# Altium footprint library SL-DPT100.PcbLib: 41 footprints (part 2 of 3)
Each footprint in its own frame and in the unit in brackets; x right, y up, seen from the top. Pads: shape width x height; smd on the part's side, far side on the other; paste and mask are expansions set on the pad; w line width, h text height; cw(c..) or ccw(c..) is an arc to the next point about the centre after c.
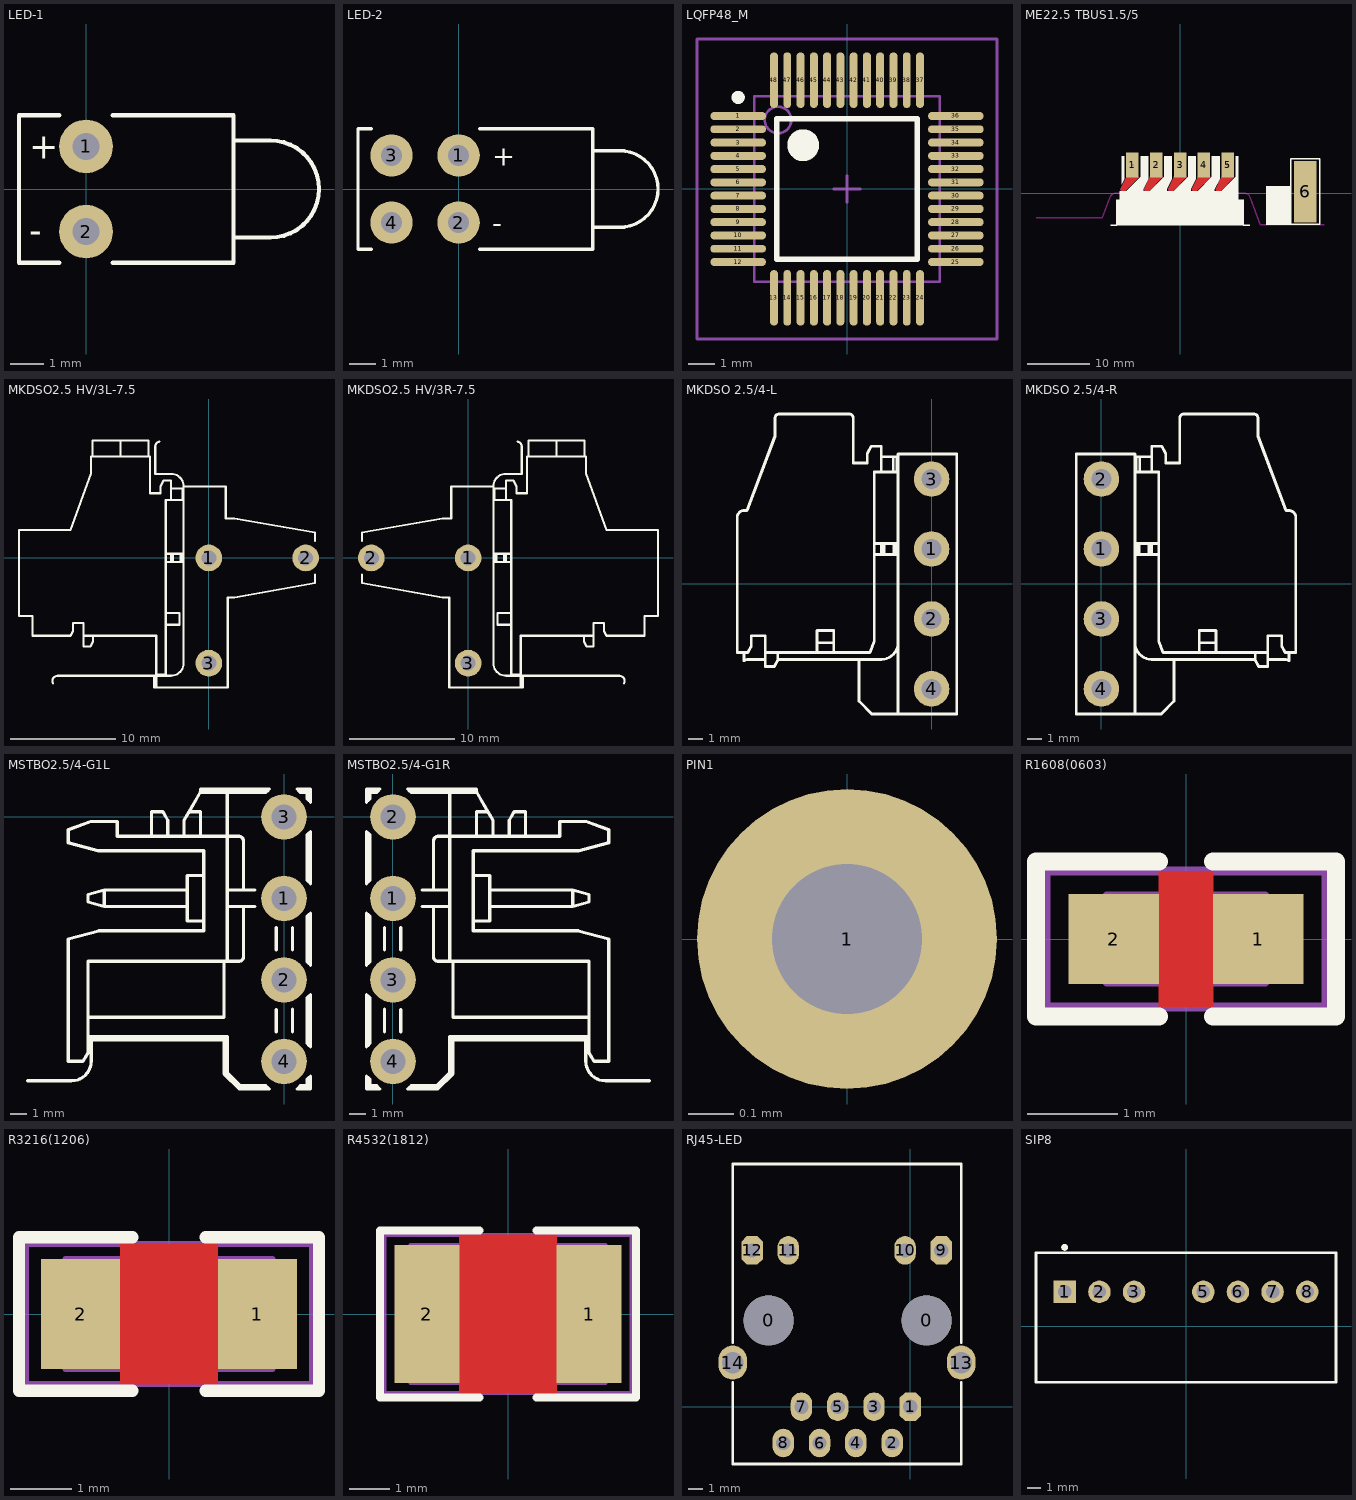
[diagram p1: the footprints below, top view; thin cyan lines are the x and y axes]

## LED-1 [mm] "Typical RED GaAs LED; 2 Leads"
height 1.75
pads (2):
  round 1.6 hole 0.8: 1(0,1.27) 2(0,-1.27)
Top Overlay:
  lines w0.127: -0.8,-2.2 -2,-2.2 -2,2.2 -0.8,2.2 ; 0.8,-2.2 4.4,-2.2 4.4,2.2 0.8,2.2 ; 4.4,-1.45 5.5,-1.45 ccw(c5.5,0) 5.5,1.45 4.4,1.45
  text "+" at -1.7,0.9 h0.76
  text "-" at -1.7,-1.6 h0.76

## LED-2 [mm]
pads (4):
  round 1.6 hole 0.8: 1(0,1.27) 2(0,-1.27) 3(-2.54,1.27) 4(-2.54,-1.27)
Top Overlay:
  lines w0.127: -3.302,-2.286 -3.81,-2.286 -3.81,2.286 -3.302,2.286 ; 0.8,-2.286 5.08,-2.286 5.08,2.286 0.8,2.286 ; 5.08,-1.45 6.262,-1.45 ; 5.08,1.45 6.262,1.45 ; 6.096,-1.45 ccw(c6.096,0) 6.096,1.45
  text "+" at 1.27,0.889 h0.76
  text "-" at 1.27,-1.651 h0.76

## LQFP48_M [mm] "48-Pin Thin Quad Flat Pack 0.5 mm Pitch, IPC Low Density"
height 1.6
pads (48):
  oval 2.1x0.3 smd: 1(-4.1,2.75) 2(-4.1,2.25) 3(-4.1,1.75) 4(-4.1,1.25) 5(-4.1,0.75) 6(-4.1,0.25) 7(-4.1,-0.25) 8(-4.1,-0.75) 9(-4.1,-1.25) 10(-4.1,-1.75) 11(-4.1,-2.25) 12(-4.1,-2.75) 25(4.1,-2.75) 26(4.1,-2.25) 27(4.1,-1.75) 28(4.1,-1.25) 29(4.1,-0.75) 30(4.1,-0.25) 31(4.1,0.25) 32(4.1,0.75) 33(4.1,1.25) 34(4.1,1.75) 35(4.1,2.25) 36(4.1,2.75)
  oval 0.3x2.1 smd: 13(-2.75,-4.1) 14(-2.25,-4.1) 15(-1.75,-4.1) 16(-1.25,-4.1) 17(-0.75,-4.1) 18(-0.25,-4.1) 19(0.25,-4.1) 20(0.75,-4.1) 21(1.25,-4.1) 22(1.75,-4.1) 23(2.25,-4.1) 24(2.75,-4.1) 37(2.75,4.1) 38(2.25,4.1) 39(1.75,4.1) 40(1.25,4.1) 41(0.75,4.1) 42(0.25,4.1) 43(-0.25,4.1) 44(-0.75,4.1) 45(-1.25,4.1) 46(-1.75,4.1) 47(-2.25,4.1) 48(-2.75,4.1)
Top Overlay:
  circle w0.25: c-4.1,3.45 r0.125
  circle w0.6: c-1.65,1.65 r0.3
  lines w0.2: -2.65,-2.65 -2.65,2.65 2.65,2.65 2.65,-2.65 -2.65,-2.65
Mechanical 13:
  circle w0.1: c-2.6,2.6 r0.5
  lines w0.1: -3.5,-3.5 -3.5,3.5 3.5,3.5 3.5,-3.5 -3.5,-3.5
Mechanical 15:
  lines w0.1: -0.5,0 0.5,0 ; 0,-0.5 0,0.5 ; -5.65,-5.65 -5.65,5.65 5.65,5.65 5.65,-5.65 -5.65,-5.65
3D body: height 1.6, standoff 0, extent -3.5,-3.5 3.5,3.5

## ME22.5 TBUS1.5/5 [mm]
pads (6):
  rect 2x4 hole 0.5: 1(-7.62,4.5) 2(-3.81,4.5) 3(0,4.5) 4(3.8,4.5) 5(7.6,4.5)
  rect 3.6x9.8 hole 0.5: 6(20,0.2)
Top Layer:
  region: 1,2.6 1,2.5 -1.1,0.4 -1.8,0.4 -1.9,0.6 -1,2.5 -1,2.6
  region: 4.8,2.6 4.8,2.5 2.7,0.4 2,0.4 1.9,0.6 2.8,2.5 2.8,2.6
  region: 8.6,2.6 8.6,2.5 6.5,0.4 5.8,0.4 5.7,0.6 6.6,2.5 6.6,2.6
  region: -2.81,2.6 -2.81,2.5 -4.91,0.4 -5.61,0.4 -5.71,0.6 -4.81,2.5 -4.81,2.6
  region: -6.62,2.6 -6.62,2.5 -8.72,0.4 -9.42,0.4 -9.52,0.6 -8.62,2.5 -8.62,2.6
Bottom Layer:
  region: 1,2.6 1,2.5 -1.1,0.4 -1.8,0.4 -1.9,0.6 -1,2.5 -1,2.6
  region: 4.8,2.6 4.8,2.5 2.7,0.4 2,0.4 1.9,0.6 2.8,2.5 2.8,2.6
  region: 8.6,2.6 8.6,2.5 6.5,0.4 5.8,0.4 5.7,0.6 6.6,2.5 6.6,2.6
  region: -2.81,2.6 -2.81,2.5 -4.91,0.4 -5.61,0.4 -5.71,0.6 -4.81,2.5 -4.81,2.6
  region: -6.62,2.6 -6.62,2.5 -8.72,0.4 -9.42,0.4 -9.52,0.6 -8.62,2.5 -8.62,2.6
Top Overlay:
  rectangle: -10.2,-5.2 10.2,-1
  rectangle: 13.7,-5.1 17.8,1.1
  region: -9.3,5.9 -9.3,1.4 -8.9,2.2 -8.9,5.9
  region: -6.3,5.9 -6.3,2.6 -8.6,0.3 -9.6,0.3 -9.6,-1 -5.9,-1 -5.9,0.6 -5.1,2.2 -5.1,5.9
  region: -2.5,5.9 -2.5,2.6 -4.8,0.3 -5.9,0.3 -5.9,-1 -2.1,-1 -2.1,0.6 -1.3,2.2 -1.3,5.9
  region: 8.9,5.9 8.9,2.6 6.6,0.3 5.5,0.3 5.5,-1 9.3,-1 9.3,5.9
  region: 1.3,5.9 1.3,2.6 -1,0.3 -2.1,0.3 -2.1,-1 1.7,-1 1.7,0.6 2.5,2.2 2.5,5.9
  region: 5.1,5.9 5.1,2.6 2.8,0.3 1.7,0.3 1.7,-1 5.5,-1 5.5,0.6 6.3,2.2 6.3,5.9
  lines w0.2: -11.1,-5.1 -10.1,-5.1 ; -9.2,4.075 -9.2,5.8 ; 10.1,-5.1 11.1,-5.1 ; 17.7,-5 22.3,-5 22.3,5.5 17.7,5.5 17.7,1
Bottom Overlay:
  rectangle: -10.2,-5.2 10.2,-1
  region: 5.1,5.9 5.1,2.6 2.8,0.3 1.7,0.3 1.7,-1 5.5,-1 5.5,0.6 6.3,2.2 6.3,5.9
  region: 1.3,5.9 1.3,2.6 -1,0.3 -2.1,0.3 -2.1,-1 1.7,-1 1.7,0.6 2.5,2.2 2.5,5.9
  region: 8.9,5.9 8.9,2.6 6.6,0.3 5.5,0.3 5.5,-1 9.3,-1 9.3,5.9
  region: -2.5,5.9 -2.5,2.6 -4.8,0.3 -5.9,0.3 -5.9,-1 -2.1,-1 -2.1,0.6 -1.3,2.2 -1.3,5.9
  region: -6.3,5.9 -6.3,2.6 -8.6,0.3 -9.6,0.3 -9.6,-1 -5.9,-1 -5.9,0.6 -5.1,2.2 -5.1,5.9
  region: -9.3,5.9 -9.3,1.4 -8.9,2.2 -8.9,5.9
  lines w0.2: -11.1,-5.1 -10.1,-5.1 ; -9.2,4.075 -9.2,5.8 ; 10.1,-5.1 11.1,-5.1 ; 17.7,-5 17.7,5.5 22.3,5.5 22.3,-5 17.7,-5
Top Solder:
  region: 1.1,2.6 1.1,2.4 -1,0.3 -1.9,0.3 -2,0.6 -1.1,2.6
  region: 4.9,2.6 4.9,2.4 2.8,0.3 1.9,0.3 1.8,0.6 2.7,2.6
  region: 8.7,2.6 8.7,2.4 6.6,0.3 5.7,0.3 5.6,0.6 6.5,2.6
  region: -2.71,2.6 -2.71,2.4 -4.81,0.3 -5.71,0.3 -5.81,0.6 -4.91,2.6
  region: -6.52,2.6 -6.52,2.4 -8.62,0.3 -9.52,0.3 -9.62,0.6 -8.72,2.6
Bottom Solder:
  region: 1.1,2.6 1.1,2.4 -1,0.3 -1.9,0.3 -2,0.6 -1.1,2.6
  region: 4.9,2.6 4.9,2.4 2.8,0.3 1.9,0.3 1.8,0.6 2.7,2.6
  region: 8.7,2.6 8.7,2.4 6.6,0.3 5.7,0.3 5.6,0.6 6.5,2.6
  region: -2.71,2.6 -2.71,2.4 -4.81,0.3 -5.71,0.3 -5.81,0.6 -4.91,2.6
  region: -6.52,2.6 -6.52,2.4 -8.62,0.3 -9.52,0.3 -9.62,0.6 -8.72,2.6
Keep-Out Layer:
  lines w0.2: -23,-3.95 -12.419,-3.95 -11.247,-0.729 ; -11.244,-0.73 cw(c-10.14,-1.2) -10.14,0 ; -10.1,0 10.1,0 ; 10.14,0.002 cw(c10.14,-1.198) 11.244,-0.728 ; 11.242,-0.728 12.8,-5.05 23,-5.05

## MKDSO2.5 HV/3L-7.5 [mil]
pads (3):
  round 100 hole 56: 1(0,0) 2(362.2,0) 3(0.04,-393.74)
Top Overlay:
  lines w7.87: -584.02,-468.89 cw(c-566.15,-460.63) -566.15,-440.95 -141.73,-440.95 ccw(c-141.73,-393.7) -94.49,-393.7 -94.49,267.72 ccw(c-141.73,267.72) -141.73,314.96 -200.79,314.96 -200.79,416.26 cw(c-181.1,416.26) -184.41,435.66 ; -330.71,379.92 -330.71,438.98 ; -196.85,-440.95 -196.85,-437.01 ; -196.64,-482.99 -196.64,-436.98 ; -196.64,-440.92 -204.51,-440.92 -204.51,-484.23 70.87,-484.23 70.87,-147.61 96.42,-147.61 397.85,-94.46 397.85,-62.99 ; -94.49,259.84 -98.42,259.84 ; -94.28,259.87 -94.28,267.74 63.2,267.74 63.2,147.66 96.42,147.66 397.85,94.51 397.85,62.99 ; -468.5,-291.34 -433.07,-291.34 ; -468.5,-291.34 -468.5,-244.09 -507.87,-244.1 -507.87,-274.29 -517.71,-291.34 -659.45,-291.34 -659.45,-216.54 -710.63,-216.54 -710.63,104.33 -518.32,104.33 -440.94,316.93 -440.94,379.92 -435.04,379.92 ; -468.5,-291.34 -468.5,-330.71 -442.91,-330.71 -433.07,-313.66 -433.07,-291.34 ; -435.04,379.92 -435.04,438.98 -226.38,438.98 -226.38,379.92 ; -435.04,379.92 -226.38,379.92 ; -433.07,-291.34 -196.85,-291.34 -196.85,-437.01 ; -226.38,379.92 -220.47,379.92 -220.47,242.13 -181.1,242.13 -181.1,268.91 -169.29,289.37 -141.73,289.37 -141.73,259.84 ; -196.85,-437.01 -161.41,-437.01 -161.41,-250 ; -161.41,-250 -110.23,-250 -110.23,-206.69 -161.41,-206.69 ; -161.41,-250 -161.41,-206.69 ; -161.41,-206.69 -161.41,-15.75 ; -161.41,-15.75 -161.41,15.75 ; -161.41,-15.75 -141.73,-15.75 ; -161.41,15.75 -141.73,15.75 ; -161.41,15.75 -161.41,216.54 -141.73,216.53 ; -141.73,-15.75 -133.86,-15.75 ; -141.73,-15.75 -141.73,15.75 ; -141.73,15.75 -133.86,15.75 ; -141.73,216.53 -98.42,216.54 -98.42,259.84 ; -141.73,216.53 -141.73,259.84 ; -141.73,259.84 -98.42,259.84 ; -133.86,-15.75 -133.86,15.75 ; -133.86,-15.75 -106.3,-15.75 ; -133.86,15.75 -106.3,15.75 ; -106.3,-15.75 -98.42,-15.75 -98.42,15.75 -106.3,15.75 ; -106.3,-15.75 -106.3,15.75

## MKDSO2.5 HV/3R-7.5 [mil]
pads (3):
  round 100 hole 56: 1(0,0) 2(-362.2,0) 3(-0.04,-393.74)
Top Overlay:
  lines w7.87: -397.85,-62.99 -397.85,-94.46 -96.42,-147.61 -70.87,-147.61 -70.87,-484.23 204.51,-484.23 204.51,-440.92 196.64,-440.92 ; -397.85,62.99 -397.85,94.51 -96.42,147.66 -63.21,147.66 -63.21,267.74 94.28,267.74 94.28,259.87 ; 94.49,259.84 98.42,259.84 ; 184.41,435.66 cw(c181.1,416.26) 200.79,416.26 200.79,314.96 141.73,314.96 ccw(c141.73,267.72) 94.49,267.72 94.49,-393.7 ccw(c141.73,-393.7) 141.73,-440.95 566.15,-440.95 cw(c566.15,-460.63) 584.02,-468.89 ; 196.64,-482.99 196.64,-436.98 ; 196.85,-440.95 196.85,-437.01 ; 330.71,379.92 330.71,438.98 ; 98.42,259.84 98.42,216.54 141.73,216.53 ; 98.42,259.84 141.73,259.84 ; 106.3,-15.75 106.3,15.75 ; 106.3,-15.75 133.86,-15.75 ; 106.3,-15.75 98.42,-15.75 98.42,15.75 106.3,15.75 ; 106.3,15.75 133.86,15.75 ; 133.86,-15.75 133.86,15.75 ; 133.86,-15.75 141.73,-15.75 ; 133.86,15.75 141.73,15.75 ; 141.73,-15.75 161.41,-15.75 ; 141.73,-15.75 141.73,15.75 ; 141.73,15.75 161.41,15.75 ; 141.73,216.53 141.73,259.84 ; 141.73,216.53 161.41,216.54 161.41,15.75 ; 141.73,259.84 141.73,289.37 169.29,289.37 181.1,268.91 181.1,242.13 220.47,242.13 220.47,379.92 226.38,379.92 ; 161.41,-250 161.41,-206.69 ; 161.41,-250 110.23,-250 110.23,-206.69 161.41,-206.69 ; 161.41,-250 161.41,-437.01 196.85,-437.01 ; 161.41,-206.69 161.41,-15.75 ; 161.41,-15.75 161.41,15.75 ; 196.85,-437.01 196.85,-291.34 433.07,-291.34 ; 226.38,379.92 435.04,379.92 ; 226.38,379.92 226.38,438.98 435.04,438.98 435.04,379.92 ; 433.07,-291.34 433.07,-313.66 442.91,-330.71 468.5,-330.71 468.5,-291.34 ; 433.07,-291.34 468.5,-291.34 ; 435.04,379.92 440.94,379.92 440.94,316.93 518.32,104.33 710.63,104.33 710.63,-216.54 659.45,-216.54 659.45,-291.34 517.71,-291.34 507.87,-274.29 507.87,-244.1 468.5,-244.09 468.5,-291.34

## MKDSO 2.5/4-L [mm]
height 12.75
pads (4):
  round 2.54 hole 1.422: 1(0,2.5) 2(0,-2.5) 3(0,7.5) 4(0,-7.5)
Top Overlay:
  lines w0.2: -13.406,-4.993 -13.406,-5.488 cw(c-13.122,-5.899) -13.122,-5.399 -11.9,-5.399 ; -11,-5.399 -5.2,-5.399 ; -5,-5.399 -5.2,-5.399 ; -4.1,2.1 -3.6,2.1 ; -4.1,2.9 -3.6,2.9 ; -2.4,-9.299 -2.4,9.3 ; -2.4,-4.2 cw(c-3.6,-4.2) -3.6,-5.4 -5.199,-5.4 ; -2.4,2.1 -2.5,2.1 ; -2.4,2.9 -2.5,2.9 ; -2.4,9.101 -2.4,9.301 ; -11.9,-4.899 -11.9,-5.899 -11.25,-5.899 -11,-5.466 -11,-4.899 ; -11.9,-4.899 -11.9,-3.699 -12.9,-3.699 -12.9,-4.466 -13.15,-4.899 -13.9,-4.899 -13.9,4.751 cw(c-13.4,4.751) -13.4,5.251 -13.2,5.251 -11.2,10.551 -11.2,11.851 cw(c-10.9,11.851) -10.9,12.151 -5.9,12.151 cw(c-5.9,11.851) -5.6,11.851 -5.6,8.651 -4.6,8.651 -4.6,9.331 -4.3,9.851 -3.6,9.851 -3.6,9.101 ; -11.9,-4.899 -11,-4.899 ; -11,-4.899 -8.2,-4.899 ; -8.2,-4.899 -8.2,-4.199 ; -8.2,-4.899 -7,-4.899 ; -8.2,-4.199 -8.2,-3.333 -7,-3.333 -7,-4.199 ; -8.2,-4.199 -7,-4.199 ; -7,-4.899 -7,-4.199 ; -7,-4.899 -5,-4.899 -4.4,-4.899 -4.1,-4.099 -4.1,2.832 -4.1,8.001 -3.6,8.001 ; -5.2,-5.399 -5.2,-8.382 -4.283,-9.299 1.8,-9.299 1.8,9.301 -2.4,9.301 ; -3.6,8.001 -3.6,9.101 ; -3.6,8.001 -2.75,8.001 ; -3.6,9.101 -2.75,9.101 ; -3.6,2.1 -3.6,2.9 ; -3.6,2.1 -3.4,2.1 ; -3.6,2.9 -3.4,2.9 ; -3.4,2.1 -3.4,2.9 ; -3.4,2.1 -2.7,2.1 ; -3.4,2.9 -2.7,2.9 ; -2.75,8.001 -2.75,9.101 ; -2.75,8.001 -2.5,8.001 -2.5,9.101 -2.75,9.101 ; -2.7,2.1 -2.7,2.9 ; -2.7,2.1 -2.5,2.1 ; -2.7,2.9 -2.5,2.9 ; -2.5,2.1 -2.5,2.9

## MKDSO 2.5/4-R [mm]
pads (4):
  round 2.54 hole 1.422: 1(0,2.5) 2(0,7.5) 3(0,-2.5) 4(0,-7.5)
Top Overlay:
  lines w0.2: 2.4,-9.299 2.4,9.3 ; 2.4,-4.2 ccw(c3.6,-4.2) 3.6,-5.4 5.2,-5.4 ; 2.4,2.1 2.5,2.1 ; 2.4,2.9 2.5,2.9 ; 2.4,9.101 2.4,9.301 ; 4.1,2.1 3.6,2.1 ; 4.1,2.9 3.6,2.9 ; 5,-5.399 5.2,-5.399 ; 11,-5.399 5.2,-5.399 ; 11.9,-5.399 13.123,-5.399 cw(c13.123,-5.899) 13.407,-5.488 13.407,-4.993 ; 2.4,9.301 -1.8,9.301 -1.8,-9.299 4.283,-9.299 5.2,-8.382 5.2,-5.399 ; 2.5,2.1 2.5,2.9 ; 2.5,2.1 2.7,2.1 ; 2.5,2.9 2.7,2.9 ; 2.7,2.1 2.7,2.9 ; 2.7,2.1 3.4,2.1 ; 2.7,2.9 3.4,2.9 ; 2.75,8.001 2.75,9.101 ; 2.75,8.001 2.5,8.001 2.5,9.101 2.75,9.101 ; 2.75,8.001 3.6,8.001 ; 2.75,9.101 3.6,9.101 ; 3.4,2.1 3.6,2.1 ; 3.4,2.1 3.4,2.9 ; 3.4,2.9 3.6,2.9 ; 3.6,2.1 3.6,2.9 ; 3.6,8.001 3.6,9.101 ; 3.6,8.001 4.1,8.001 4.1,2.832 4.1,-4.099 4.4,-4.899 5,-4.899 7,-4.899 ; 3.6,9.101 3.6,9.851 4.3,9.851 4.6,9.331 4.6,8.651 5.6,8.651 5.6,11.851 cw(c5.9,11.851) 5.9,12.151 10.9,12.151 cw(c10.9,11.851) 11.2,11.851 11.2,10.551 13.2,5.251 13.4,5.251 cw(c13.4,4.751) 13.9,4.751 13.9,-4.899 13.15,-4.899 12.9,-4.466 12.9,-3.699 11.9,-3.699 11.9,-4.899 ; 7,-4.899 7,-4.199 ; 7,-4.899 8.2,-4.899 ; 7,-4.199 7,-3.333 8.2,-3.333 8.2,-4.199 ; 7,-4.199 8.2,-4.199 ; 8.2,-4.899 11,-4.899 ; 8.2,-4.899 8.2,-4.199 ; 11,-4.899 11,-5.466 11.25,-5.899 11.9,-5.899 11.9,-4.899 ; 11,-4.899 11.9,-4.899

## MSTBO2.5/4-G1L [mil]
pads (4):
  round 110 hole 60: 1(0,-196.85) 2(0,-393.7) 3(0,0) 4(0,-590.55)
Top Overlay:
  lines w7.87: -619.29,-637.44 -512.99,-637.44 ccw(c-512.99,-590.19) -465.75,-590.19 -465.75,-539.01 ; -465.75,-531.14 -465.75,-539.01 ; -200.79,62.99 -200.79,67.29 -35.43,67.29 ; -149.61,62.99 -39.37,62.99 ; -141.73,-535.43 -141.73,-618.11 -106.3,-653.54 -39.37,-653.54 ; -70.87,-216.18 -97.64,-216.18 ; -70.87,-176.81 -97.64,-176.81 ; -43.31,-649.25 -105.51,-649.25 -137.01,-617.75 -137.01,-531.14 -473.62,-531.14 ; -43.31,59.41 -137.01,59.41 ; -35.43,-657.12 -108.77,-657.12 -144.88,-621.02 -144.88,-539.01 -465.75,-539.01 ; -18.9,-519.33 -18.9,-465.28 ; -18.9,-321.76 -18.9,-267.72 ; 20.47,-519.33 20.47,-464.57 ; 20.47,-321.76 20.47,-267.72 ; 31.5,-657.12 63.78,-657.12 63.78,-625.98 ; 31.5,67.29 63.78,67.29 63.78,35.43 ; 35.43,-653.54 59.06,-653.54 59.06,-629.92 ; 35.43,62.99 59.06,62.99 59.06,39.37 ; 39.37,-649.25 55.91,-649.25 55.91,-633.86 ; 39.37,59.41 55.91,59.41 55.91,43.31 ; 55.91,-547.24 55.91,-437.01 ; 55.91,-350.39 55.91,-240.07 ; 55.91,-153.54 55.91,-43.31 ; 59.06,-551.18 59.06,-433.07 ; 59.06,-354.33 59.06,-236.22 ; 59.06,-157.48 59.06,-39.37 ; 63.78,-555.12 63.78,-429.13 ; 63.78,-358.27 63.78,-232.19 ; 63.78,-161.42 63.78,-35.43 ; -473.62,-531.14 -473.62,-569.74 -485.43,-590.19 -520.86,-590.19 -520.86,-294.92 -447.4,-275.23 -194.09,-275.23 -194.09,-251.61 ; -473.62,-531.14 -473.62,-483.9 ; -473.62,-483.9 -144.88,-483.9 -144.88,-348.86 ; -473.62,-483.9 -473.62,-348.86 -144.88,-348.86 ; -434.25,-216.18 -233.46,-216.18 ; -434.25,-216.18 -473.62,-205.63 -473.62,-187.36 -434.25,-176.81 ; -434.25,-216.18 -434.25,-176.81 ; -434.25,-176.81 -233.46,-176.81 ; -320.08,-46.89 -280.71,-46.89 ; -320.08,-46.89 -402.75,-46.89 -402.75,-11.45 -466.78,-11.45 -520.86,-31.14 -520.86,-62.44 -448.87,-81.73 -194.09,-81.73 -194.09,-141.38 ; -320.08,-46.89 -320.08,12.17 -292.52,12.17 -280.71,-8.29 -280.71,-46.89 ; -280.71,-46.89 -241.34,-46.89 ; -241.34,-46.89 -201.97,-46.89 ; -241.34,-46.89 -241.34,-8.29 -229.53,12.17 ; -233.46,-216.18 -233.46,-251.61 -194.09,-251.61 ; -233.46,-216.18 -233.46,-176.81 ; -233.46,-176.81 -233.46,-141.38 -194.09,-141.38 ; -229.53,12.17 -201.97,12.17 -201.97,-46.89 ; -229.53,12.17 -202.25,59.41 -137.01,59.41 ; -201.97,-46.89 -137.01,-46.89 ; -194.09,-251.61 -194.09,-141.38 ; -144.88,-348.86 -137.01,-348.86 ; -137.01,-348.86 -109.45,-348.86 ccw(c-109.45,-337.04) -97.64,-337.04 -97.64,-216.18 ; -137.01,-348.86 -137.01,-216.18 ; -137.01,-216.18 -97.64,-216.18 ; -137.01,-216.18 -137.01,-176.81 ; -137.01,-176.81 -97.64,-176.81 ; -137.01,-176.81 -137.01,-46.89 ; -137.01,-46.89 -137.01,59.41 ; -137.01,-46.89 -109.45,-46.89 cw(c-109.45,-58.7) -97.64,-58.7 -97.64,-176.81

## MSTBO2.5/4-G1R [mil]
pads (4):
  round 110 hole 60: 1(0,-196.85) 2(0,0) 3(0,-393.7) 4(0,-590.55)
Top Overlay:
  lines w7.87: -63.78,-625.98 -63.78,-657.12 -31.5,-657.12 ; -63.78,-555.12 -63.78,-429.13 ; -63.78,-358.27 -63.78,-232.28 ; -63.78,-161.42 -63.78,-35.43 ; -63.78,35.43 -63.78,67.29 -31.5,67.29 ; -59.06,-629.92 -59.06,-653.54 -35.43,-653.54 ; -59.06,-551.18 -59.06,-433.07 ; -59.06,-354.33 -59.06,-236.22 ; -59.06,-157.48 -59.06,-39.37 ; -59.06,39.37 -59.06,62.99 -35.43,62.99 ; -55.91,-633.86 -55.91,-649.25 -39.37,-649.25 ; -55.91,-547.24 -55.91,-437.01 ; -55.91,-350.39 -55.91,-240.07 ; -55.91,-153.54 -55.91,-43.31 ; -55.91,43.31 -55.91,59.41 -39.37,59.41 ; -20.47,-519.33 -20.47,-464.57 ; -20.47,-321.76 -20.47,-267.72 ; 18.9,-519.33 18.9,-465.28 ; 18.9,-321.76 18.9,-267.72 ; 35.43,-657.12 108.77,-657.12 144.88,-621.02 144.88,-539.01 465.75,-539.01 ; 35.43,67.29 200.79,67.29 200.79,62.99 ; 39.37,-653.54 106.3,-653.54 110.24,-649.61 141.73,-618.11 141.73,-535.43 ; 39.37,62.99 98.43,62.99 ; 43.31,-649.25 105.51,-649.25 137.01,-617.75 137.01,-531.14 473.62,-531.14 ; 43.31,59.41 137.01,59.41 ; 70.87,-216.18 97.64,-216.18 ; 70.87,-176.81 97.64,-176.81 ; 465.75,-531.14 465.75,-539.01 ; 619.29,-637.44 512.99,-637.44 cw(c512.99,-590.19) 465.75,-590.19 465.75,-539.01 ; 97.64,-216.18 97.64,-337.04 ccw(c109.45,-337.04) 109.45,-348.86 137.01,-348.86 ; 97.64,-216.18 137.01,-216.18 ; 97.64,-176.81 97.64,-58.7 cw(c109.45,-58.7) 109.45,-46.89 137.01,-46.89 ; 97.64,-176.81 137.01,-176.81 ; 137.01,-348.86 137.01,-216.18 ; 137.01,-348.86 144.88,-348.86 ; 137.01,-216.18 137.01,-176.81 ; 137.01,-176.81 137.01,-46.89 ; 137.01,-46.89 201.97,-46.89 ; 137.01,-46.89 137.01,59.41 ; 137.01,59.41 202.25,59.41 229.53,12.17 ; 144.88,-348.86 473.62,-348.86 473.62,-483.9 ; 144.88,-348.86 144.88,-483.9 473.62,-483.9 ; 194.09,-251.61 194.09,-141.38 ; 194.09,-251.61 194.09,-275.23 447.4,-275.23 520.86,-294.92 520.86,-590.19 485.43,-590.19 473.62,-569.74 473.62,-531.14 ; 194.09,-251.61 233.46,-251.61 233.46,-216.18 ; 194.09,-141.38 194.09,-81.73 448.87,-81.73 520.86,-62.44 520.86,-31.14 466.78,-11.45 402.75,-11.45 402.75,-46.89 320.08,-46.89 ; 194.09,-141.38 233.46,-141.38 233.46,-176.81 ; 201.97,-46.89 241.34,-46.89 ; 201.97,-46.89 201.97,12.17 229.53,12.17 ; 229.53,12.17 241.34,-8.29 241.34,-46.89 ; 233.46,-216.18 434.25,-216.18 ; 233.46,-216.18 233.46,-176.81 ; 233.46,-176.81 434.25,-176.81 ; 241.34,-46.89 280.71,-46.89 ; 280.71,-46.89 320.08,-46.89 ; 280.71,-46.89 280.71,-8.29 292.52,12.17 320.08,12.17 320.08,-46.89 ; 434.25,-216.18 434.25,-176.81 ; 434.25,-216.18 473.62,-205.63 473.62,-187.36 434.25,-176.81 ; 473.62,-531.14 473.62,-483.9

## PIN1 [mil] "Connector; Plug"
height 47.24
pads (1):
  round 26 hole 13: 1(0,0)

## R1608(0603) [mm] "Chip Resistor, Body 1.6x0.8mm, IPC Medium Density"
height 0.6
pads (2):
  rect 1x1 smd: 1(0.8,0) 2(-0.8,0)
Top Layer:
  pour cut-out: -0.3,0.75 0.3,0.75 0.3,-0.75 -0.3,-0.75
Top Overlay:
  lines w0.2: -0.3,-0.86 -1.66,-0.86 -1.66,0.86 -0.3,0.86 ; 0.3,-0.86 1.66,-0.86 1.66,0.86 0.3,0.86
Mechanical 13:
  lines w0.1: -0.875,-0.475 -0.875,0.475 0.875,0.475 0.875,-0.475 -0.875,-0.475
Mechanical 15:
  lines w0.1: -0.475,0 0.475,0 ; 0,-0.475 0,0.475 ; -1.55,-0.75 1.55,-0.75 1.55,0.75 -1.55,0.75 -1.55,-0.75
3D body: height 0.85, standoff 0, extent -0.875,-0.475 0.875,0.475

## R3216(1206) [mm] "Chip Resistor, Body 3.2x1.6mm, IPC Medium Density"
height 0.71
pads (2):
  rect 1.3x1.8 smd: 1(1.45,0) 2(-1.45,0)
Top Layer:
  pour cut-out: -0.8,1.15 0.8,1.15 0.8,-1.15 -0.8,-1.15
Top Overlay:
  lines w0.2: -0.6,-1.26 -2.46,-1.26 -2.46,1.26 -0.6,1.26 ; 0.6,-1.26 2.46,-1.26 2.46,1.26 0.6,1.26
Mechanical 13:
  lines w0.1: -1.7,-0.9 1.7,-0.9 1.7,0.9 -1.7,0.9 -1.7,-0.9
Mechanical 15:
  lines w0.1: -0.5,0 0.5,0 ; 0,-0.5 0,0.5 ; -2.35,-1.15 2.35,-1.15 2.35,1.15 -2.35,1.15 -2.35,-1.15
3D body: height 1.35, standoff 0, extent -1.7,-0.9 1.7,0.9

## R4532(1812) [mm] "Chip Resistor, Body 4.5x3.2mm, IPC Medium Density"
height 0.71
pads (2):
  rect 1.6x3.4 smd: 1(2,0) 2(-2,0)
Top Layer:
  pour cut-out: 1.2,-1.95 -1.2,-1.95 -1.2,1.95 1.2,1.95
Top Overlay:
  lines w0.2: -0.7,-2.06 -3.16,-2.06 -3.16,2.06 -0.7,2.06 ; 0.7,-2.06 3.16,-2.06 3.16,2.06 0.7,2.06
Mechanical 13:
  lines w0.1: -2.4,-1.7 2.4,-1.7 2.4,1.7 -2.4,1.7 -2.4,-1.7
Mechanical 15:
  lines w0.1: -0.5,0 0.5,0 ; 0,-0.5 0,0.5 ; -3.05,-1.95 -3.05,1.95 3.05,1.95 3.05,-1.95 -3.05,-1.95
3D body: height 0.71, standoff 0, extent -2.4,-1.7 2.4,1.7

## RJ45-LED [mm]
height 4.83
pads (16):
  round 3.5 hole 3.5: 0(-9.9,6.035) 0(1.16,6.035)
  oct 1.5x2 hole 1: 1(0.01,-0.005) 9(2.185,10.935) 12(-11.065,10.935)
  oval 1.5x2 hole 1: 2(-1.26,-2.545) 3(-2.53,-0.005) 4(-3.8,-2.545) 5(-5.07,-0.005) 6(-6.34,-2.545) 7(-7.61,-0.005) 8(-8.88,-2.545) 10(-0.355,10.935) 11(-8.525,10.935)
  oval 2x2.4 hole 1.5: 13(3.58,3.085) 14(-12.42,3.085)
Top Overlay:
  lines w0.2: -12.42,1.68 -12.42,-4.015 3.58,-4.015 3.58,1.68 ; -12.42,4.5 -12.42,16.985 3.58,16.985 3.58,4.5

## SIP8 [mm] "SIP; 8 Round Pins; Body 22x9.5mm; Pitch 2.54 mm"
height 12
pads (7):
  rect 1.65x1.65 hole 1: 1(-8.89,2.54)
  round 1.65 hole 1: 2(-6.35,2.54) 3(-3.81,2.54) 5(1.27,2.54) 6(3.81,2.54) 7(6.35,2.54) 8(8.89,2.54)
Top Overlay:
  circle w0.25: c-8.9,5.8 r0.125
  lines w0.2: -11,-4.1 11,-4.1 11,5.4 -11,5.4 -11,-4.1
Mechanical 13:
  lines w0.1: -11,-4.1 -11,5.4 11,5.4 11,-4.1 -11,-4.1
3D body: height 12, standoff 0, extent -11,-4.1 11,5.4